# Altium integrated library LR2021_Wio_868-915_e769v01a.IntLib: 23 symbols
Pins are listed as number, name and electrical type; pins without a type are passive.

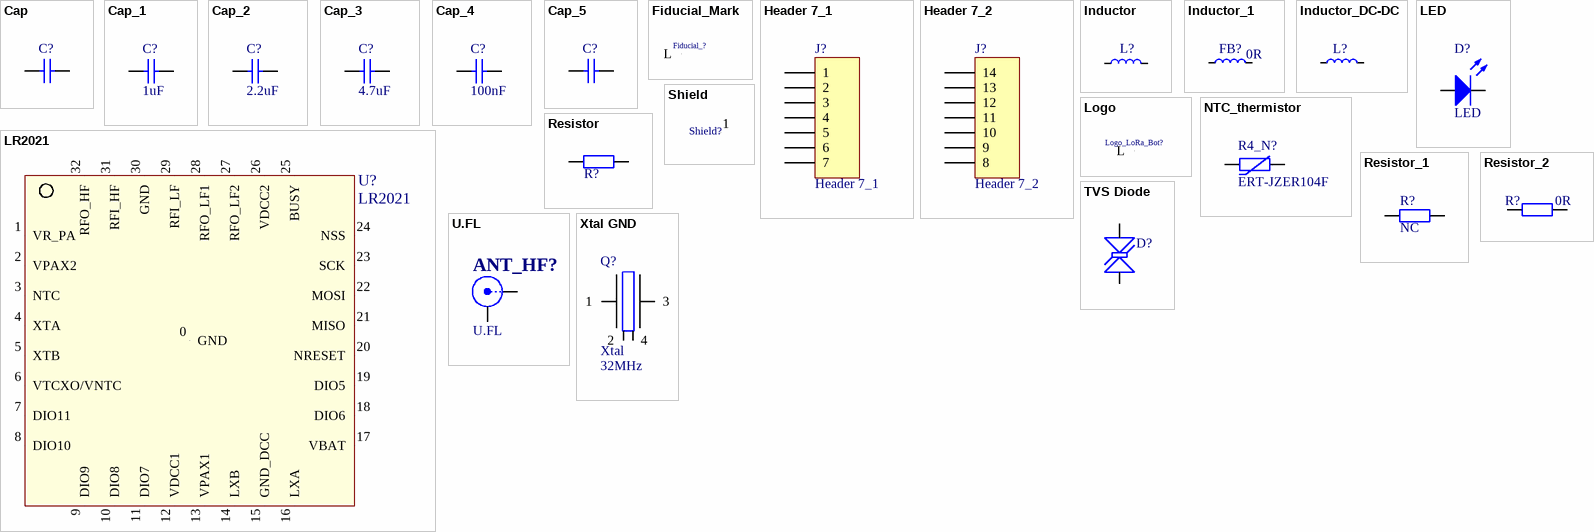
[diagram p0: symbols Cap to Xtal GND]

## Cap
designator C?  (value not drawn)
Capacitor SMD; Value: VAL?; Published: 8-Jun-2000; LatestRevisionDate: 05-oct-2007  -  Semtech; LatestRevisionNote: Re-released for DXP Platform.; Publisher: Altium Limited
simulation model CAP (Semiconductor Capacitor)
signal-integrity model Cap Semi
footprint c_201_smd (Chip SMD component 201; Body 0.6 x 0.3 mm (LxW typ); small footprint)
footprint c_402_smd (Chip SMD component 402; Body 1.0 x 0.5 mm (LxW typ);small footprint)
footprint c_603_smd (Chip SMD component 603; Body 1.6 x 0.8mm (LxW typ); small footprint)
footprint c_805_smd (Chip SMD component 805; Body 2.0 x 1.25 mm (LxW typ); small footprint)
pins: 1, 2

## Cap_1
designator C?, comment value 1uF  (hidden comment: Cap)
Capacitor SMD; Published: 8-Jun-2000; LatestRevisionDate: 05-oct-2007  -  Semtech; LatestRevisionNote: Re-released for DXP Platform.; Publisher: Altium Limited
simulation model CAP (Semiconductor Capacitor)
signal-integrity model Cap Semi
footprint c_201_smd (Chip SMD component 201; Body 0.6 x 0.3 mm (LxW typ); small footprint)
footprint c_402_smd (Chip SMD component 402; Body 1.0 x 0.5 mm (LxW typ);small footprint)
footprint c_603_smd (Chip SMD component 603; Body 1.6 x 0.8mm (LxW typ); small footprint)
footprint c_805_smd (Chip SMD component 805; Body 2.0 x 1.25 mm (LxW typ); small footprint)
pins: 1, 2

## Cap_2
designator C?, comment value 2.2uF  (hidden comment: Cap)
Capacitor SMD; Published: 8-Jun-2000; LatestRevisionDate: 05-oct-2007  -  Semtech; LatestRevisionNote: Re-released for DXP Platform.; Publisher: Altium Limited
simulation model CAP (Semiconductor Capacitor)
signal-integrity model Cap Semi
footprint c_201_smd (Chip SMD component 201; Body 0.6 x 0.3 mm (LxW typ); small footprint)
footprint c_402_smd (Chip SMD component 402; Body 1.0 x 0.5 mm (LxW typ);small footprint)
footprint c_603_smd (Chip SMD component 603; Body 1.6 x 0.8mm (LxW typ); small footprint)
footprint c_805_smd (Chip SMD component 805; Body 2.0 x 1.25 mm (LxW typ); small footprint)
pins: 1, 2

## Cap_3
designator C?, comment value 4.7uF  (hidden comment: Cap)
Capacitor SMD; Published: 8-Jun-2000; LatestRevisionDate: 05-oct-2007  -  Semtech; LatestRevisionNote: Re-released for DXP Platform.; Publisher: Altium Limited
simulation model CAP (Semiconductor Capacitor)
signal-integrity model Cap Semi
footprint c_201_smd (Chip SMD component 201; Body 0.6 x 0.3 mm (LxW typ); small footprint)
footprint c_402_smd (Chip SMD component 402; Body 1.0 x 0.5 mm (LxW typ);small footprint)
footprint c_603_smd (Chip SMD component 603; Body 1.6 x 0.8mm (LxW typ); small footprint)
footprint c_805_smd (Chip SMD component 805; Body 2.0 x 1.25 mm (LxW typ); small footprint)
pins: 1, 2

## Cap_4
designator C?, comment value 100nF  (hidden comment: Cap)
Capacitor SMD; Published: 8-Jun-2000; LatestRevisionDate: 05-oct-2007  -  Semtech; LatestRevisionNote: Re-released for DXP Platform.; Publisher: Altium Limited
simulation model CAP (Semiconductor Capacitor)
signal-integrity model Cap Semi
footprint c_201_smd (Chip SMD component 201; Body 0.6 x 0.3 mm (LxW typ); small footprint)
footprint c_402_smd (Chip SMD component 402; Body 1.0 x 0.5 mm (LxW typ);small footprint)
footprint c_603_smd (Chip SMD component 603; Body 1.6 x 0.8mm (LxW typ); small footprint)
footprint c_805_smd (Chip SMD component 805; Body 2.0 x 1.25 mm (LxW typ); small footprint)
pins: 1, 2

## Cap_5
designator C?, comment Cap  (value not drawn)
Capacitor SMD; Published: 8-Jun-2000; LatestRevisionDate: 05-oct-2007  -  Semtech; LatestRevisionNote: Re-released for DXP Platform.; Publisher: Altium Limited; Value: ?
simulation model CAP (Semiconductor Capacitor)
signal-integrity model Cap Semi
footprint c_201_smd (Chip SMD component 201; Body 0.6 x 0.3 mm (LxW typ); small footprint)
footprint c_402_smd (Chip SMD component 402; Body 1.0 x 0.5 mm (LxW typ);small footprint)
footprint c_603_smd (Chip SMD component 603; Body 1.6 x 0.8mm (LxW typ); small footprint)
footprint c_805_smd (Chip SMD component 805; Body 2.0 x 1.25 mm (LxW typ); small footprint)
pins: 1, 2

## Fiducial_Mark
designator Fiducial_?  (value not drawn)
Schematic symbol for Logo
footprint fiducial_mark_signal_top (Fiducial mark for automatic assembly)
footprint fiducial_mark_signal_top Small (Fiducial mark for automatic assembly - small size)
pins: 0 L "Logo"

## Header 7_1
designator J?
Header, 7-Pin - Pin 1 to 7; LatestRevisionDate: 17-Jul-2002; LatestRevisionNote: Re-released for DXP Platform.; Publisher: Altium Limited
signal-integrity model Connector
footprint HDR1X7_1 (Connector; Header; 7 Position)
footprint HDR1X7_1_CASTELLATED (Connector; Header Castellated; 7 Position)
pins: 1, 2, 3, 4, 5, 6, 7

## Header 7_2
designator J?
Header, 7-Pin - Pin 8 to 14; LatestRevisionDate: 17-Jul-2002; LatestRevisionNote: Re-released for DXP Platform.; Publisher: Altium Limited
signal-integrity model Connector
footprint HDR1X7_2 (Connector; Header; 7 Position)
footprint HDR1X7_2_CASTELLATED (Connector; Header Castellated; 7 Position)
pins: 8, 9, 10, 11, 12, 13, 14

## Inductor
designator L?, comment Inductor symbol  (value not drawn)
Inductor; Code_IEC: 1005; Value: VAL?; Published: 15-Jun-2021; LatestRevisionDate: 15-Jun-2021 -  Semtech; LatestRevisionNote: Re-released for DXP Platform.; Publisher: Altium Limited; Code_JEITA: 0402
footprint rlc_201_smd_small (Chip SMD component 201; Body 0.6 x 0.3 mm (LxW typ); small footprint)
footprint rlc_402_smd_small (Chip SMD component 402; Body 1.0 x 0.5 mm (LxW typ);small footprint)
footprint rlc_603_smd_small (Chip SMD component 603; Body 1.6 x 0.8mm (LxW typ); small footprint)
footprint rlc_805_smd_small (Chip SMD component 805; Body 2.0 x 1.25 mm (LxW typ); small footprint)
footprint rlc_1206_smd_small (Chip SMD component 1206; Body 3.2 x 1.6 mm (LxW typ))
footprint lqg_402_smd (Chip SMD component 402; Body 1.0 x 0.5 mm (LxW typ);small footprint)
footprint LQP_201_smd (Chip SMD component 201; Body 0.6 x 0.3 mm (LxW typ); small footprint)
footprint LQW_201_smd (Chip SMD component 201; Body 0.6 x 0.3 mm (LxW typ); small footprint)
footprint lqw_402_smd (Chip SMD component 402; Body 1.0 x 0.5 mm (LxW typ);small footprint)
pins: 1, 2

## Inductor_1
designator FB?, comment value 0R  (hidden comment: Inductor symbol)
Inductor; Code_IEC: 1005; Published: 15-Jun-2021; LatestRevisionDate: 15-Jun-2021 -  Semtech; LatestRevisionNote: Re-released for DXP Platform.; Publisher: Altium Limited; Code_JEITA: 0402
footprint rlc_201_smd_small (Chip SMD component 201; Body 0.6 x 0.3 mm (LxW typ); small footprint)
footprint rlc_402_smd_small (Chip SMD component 402; Body 1.0 x 0.5 mm (LxW typ);small footprint)
footprint rlc_603_smd_small (Chip SMD component 603; Body 1.6 x 0.8mm (LxW typ); small footprint)
footprint rlc_805_smd_small (Chip SMD component 805; Body 2.0 x 1.25 mm (LxW typ); small footprint)
footprint rlc_1206_smd_small (Chip SMD component 1206; Body 3.2 x 1.6 mm (LxW typ))
footprint lqg_402_smd (Chip SMD component 402; Body 1.0 x 0.5 mm (LxW typ);small footprint)
footprint LQP_201_smd (Chip SMD component 201; Body 0.6 x 0.3 mm (LxW typ); small footprint)
footprint LQW_201_smd (Chip SMD component 201; Body 0.6 x 0.3 mm (LxW typ); small footprint)
footprint lqw_402_smd (Chip SMD component 402; Body 1.0 x 0.5 mm (LxW typ);small footprint)
footprint Ferrite_201_smd (Chip SMD component 201; Body 0.6 x 0.3 mm (LxW typ); small footprint)
pins: 1, 2

## Inductor_DC-DC
designator L?, comment Inductor symbol  (value not drawn)
Inductor for DC-DC; Code_IEC: 1005; Published: 15-Jun-2021; LatestRevisionDate: 15-Jun-2021 -  Semtech; LatestRevisionNote: Re-released for DXP Platform.; Publisher: Altium Limited; Code_JEITA: 0402; Value: ?
footprint l_603_smd (Chip SMD component 603; Body 1.6 x 0.8mm (LxW typ); small footprint)
footprint LQM21P_805_INDUCTOR_SMD (LQM21P CHIP COIL INDUCTOR for Consumer equipment & Industrial equipment - 0805 Package size)
footprint LQM18P_603_INDUCTOR_SMD (LQM18P CHIP COIL INDUCTOR for Consumer equipment & Industrial equipment - 0603 Package size)
pins: 1, 2

## LED
designator D?
LatestRevisionDate: 05-oct-2007  -  Semtech
footprint CD1005-0402 (Chip Diode; Body 1.0 x 0.5 mm (LxW typ))
footprint LED_APHHS1005L (Chip Diode; Body 1.0 x 0.5 mm (LxW typ))
pins: 1 A, 2 K

## Logo
designator Logo_LoRa_Bot?, comment Logo symbol  (value not drawn)
Schematic symbol for Logo
footprint logo_semtech_horiz_size1 (Logo semtech horizontal - size1 - S)
footprint logo_semtech_horiz_size2 (Logo semtech horizontal - size2 - M)
footprint logo_semtech_horiz_size3 (Logo semtech horizontal - size3 - L)
footprint logo_semtech_horiz_size4 (Logo semtech horizontal - size4 - XL)
footprint Logo ESD
footprint Logo LoRa Size1 (Logo LoRa Size1 - Top Overlay - 6x4mm - Registered)
footprint Logo LoRa Size2 (Logo LoRa Size2 - Top Overlay - 9x5.5mm - Registered)
footprint Logo LoRa Size3 (Logo LoRa Size3 - Top Overlay - 14.5x8mm - Registered)
footprint Logo LoRa Size4 (Logo LoRa Size4 - Top Overlay - 18x9.5mm - Registered)
footprint Logo Recycling1
footprint Logo Recycling2
pins: 0 L "Logo"

## LR2021
designator U?
LR2021 - Low Power Integrated Low Power Multi protocol Transceiver; LatestRevisionDate: 27-Jul-2009 -  Semtech
footprint qfn32l_5x5mm (32 Leads, Body 5.0x5.0mm, Pitch 0.50mm, QFN32L)
pins: 0 GND (power), 1 VR_PA (power), 2 VPAX2 (power), 3 NTC, 4 XTA, 5 XTB, 6 VTCXO/VNTC, 7 DIO11, 8 DIO10, 9 DIO9, 10 DIO8, 11 DIO7, 12 VDCC1 (power), 13 VPAX1 (power), 14 LXB (power), 15 GND_DCC (power), 16 LXA (power), 17 VBAT (power), 18 DIO6, 19 DIO5, 20 NRESET, 21 MISO, 22 MOSI, 23 SCK, 24 NSS, 25 BUSY, 26 VDCC2 (power), 27 RFO_LF2, 28 RFO_LF1, 29 RFI_LF, 30 GND (power), 31 RFI_HF, 32 RFO_HF

## NTC_thermistor
designator R4_N?, comment value ERT-JZER104F  (hidden comment: NTC)
Resistor SMD - IEC symbol version; LatestRevisionDate: 27-Jul-20  -  Semtech
footprint rlc_805_smd_small (Chip SMD component 805; Body 2.0 x 1.25 mm (LxW typ); small footprint)
footprint rlc_1206_smd_small (Chip SMD component 1206; Body 3.2 x 1.6 mm (LxW typ))
footprint r_201_smd (Chip SMD component 201; Body 0.6 x 0.3 mm (LxW typ); small footprint)
footprint r_402_smd (Chip SMD component 402; Body 1.0 x 0.5 mm (LxW typ);small footprint)
footprint r_603_smd (Chip SMD component 603; Body 1.6 x 0.8mm (LxW typ); small footprint)
pins: 1, 2

## Resistor
designator R?  (value not drawn)
Resistor SMD - IEC symbol version; Value: VAL?; LatestRevisionDate: 27-Jul-20  -  Semtech
footprint rlc_805_smd_small (Chip SMD component 805; Body 2.0 x 1.25 mm (LxW typ); small footprint)
footprint rlc_1206_smd_small (Chip SMD component 1206; Body 3.2 x 1.6 mm (LxW typ))
footprint r_201_smd (Chip SMD component 201; Body 0.6 x 0.3 mm (LxW typ); small footprint)
footprint r_402_smd (Chip SMD component 402; Body 1.0 x 0.5 mm (LxW typ);small footprint)
footprint r_603_smd (Chip SMD component 603; Body 1.6 x 0.8mm (LxW typ); small footprint)
pins: 1, 2

## Resistor_1
designator R?, comment value NC  (hidden comment: Resistor)
Resistor SMD - IEC symbol version; LatestRevisionDate: 27-Jul-20  -  Semtech
footprint rlc_805_smd_small (Chip SMD component 805; Body 2.0 x 1.25 mm (LxW typ); small footprint)
footprint rlc_1206_smd_small (Chip SMD component 1206; Body 3.2 x 1.6 mm (LxW typ))
footprint r_201_smd (Chip SMD component 201; Body 0.6 x 0.3 mm (LxW typ); small footprint)
footprint r_402_smd (Chip SMD component 402; Body 1.0 x 0.5 mm (LxW typ);small footprint)
footprint r_603_smd (Chip SMD component 603; Body 1.6 x 0.8mm (LxW typ); small footprint)
pins: 1, 2

## Resistor_2
designator R?, comment value 0R  (hidden comment: Resistor)
Resistor SMD - IEC symbol version; LatestRevisionDate: 27-Jul-20  -  Semtech
footprint rlc_805_smd_small (Chip SMD component 805; Body 2.0 x 1.25 mm (LxW typ); small footprint)
footprint rlc_1206_smd_small (Chip SMD component 1206; Body 3.2 x 1.6 mm (LxW typ))
footprint r_201_smd (Chip SMD component 201; Body 0.6 x 0.3 mm (LxW typ); small footprint)
footprint r_402_smd (Chip SMD component 402; Body 1.0 x 0.5 mm (LxW typ);small footprint)
footprint r_603_smd (Chip SMD component 603; Body 1.6 x 0.8mm (LxW typ); small footprint)
pins: 1, 2

## Shield
designator Shield?, comment RF Shield  (value not drawn)
RF Shield - EMI Gasket - Standard Surface Mount Shields
footprint Custom shield LR2021 (Shielding Cabinet, SMD Frame, body mm)
pins: 1 "Shield"

## TVS Diode
designator D?  (value not drawn)
Ultra Low Capacitance 1-line ESD Protection; LatestRevisionDate: 23-Aug-2016; Type: TVS Diode
footprint SLP0603P2X3F (Chip Diode; Body  0.6 x 0.3 mm (LxW typ))
pins: 1 A, 2 K

## U.FL
designator ANT_HF?
U.FL Hirose RF Connector; LatestRevisionDate: 21-Feb-2012  -  Semtech
footprint U.FL-R-SMT Hirose_2337019-1 (Hirose U.FL RF receptacle - U.FL-R-SMT)
pins: 1 Signal "RF signal", 2 GND "Ground signal", 3 GND "Ground signal"

## Xtal GND
designator Q?, comment Xtal  value 32MHz
Crystal with GND pins; LatestRevisionDate: 05-oct-2007  -  Semtech
footprint XTAL_2016_1612 (Crystal SMD 2.0x1.6mm and 1.6x1.2mm)
footprint XTAL_1612 (Crystal SMD 1.6x1.2mm)
pins: 1, 2, 3, 4